# Altium footprint library 2mm-6p.PcbLib: 1 footprints
Each footprint in its own frame and in the unit in brackets; x right, y up, seen from the top. Pads: shape width x height; smd on the part's side, far side on the other; paste and mask are expansions set on the pad; w line width, h text height; cw(c..) or ccw(c..) is an arc to the next point about the centre after c.
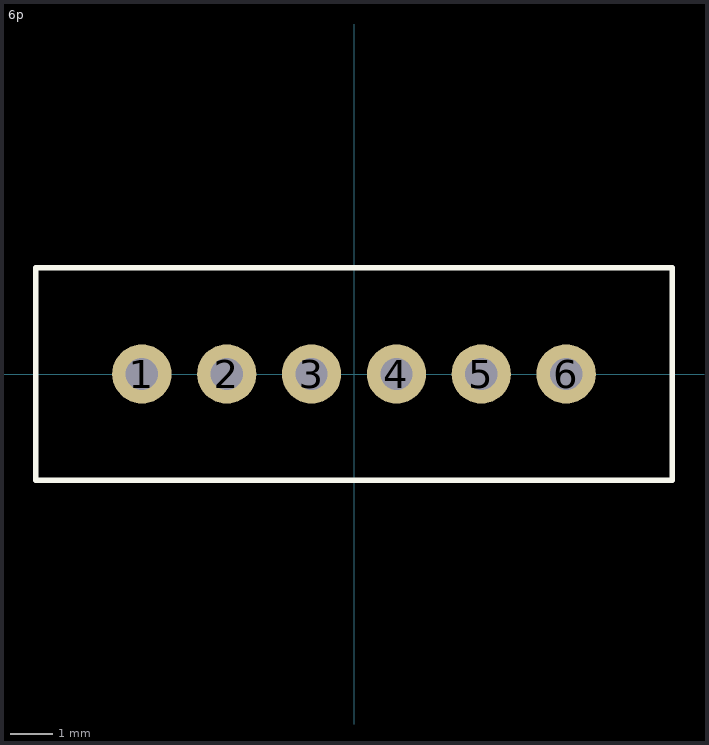
[diagram p0: the footprint, top view; thin cyan lines are the x and y axes]

## 6p [mil]
pads (6):
  round 55 hole 30: 1(-196.85,0) 2(-118.11,0) 3(-39.37,0) 4(39.37,0) 5(118.11,0) 6(196.85,0)
Top Overlay:
  lines w5: -295.28,-98.43 -295.28,98.43 295.28,98.43 295.28,-98.43 -295.28,-98.43